# Altium footprint library DE-211024.PcbLib: 131 footprints (part 6 of 9)
Each footprint in its own frame and in the unit in brackets; x right, y up, seen from the top. Pads: shape width x height; smd on the part's side, far side on the other; paste and mask are expansions set on the pad; w line width, h text height; cw(c..) or ccw(c..) is an arc to the next point about the centre after c.
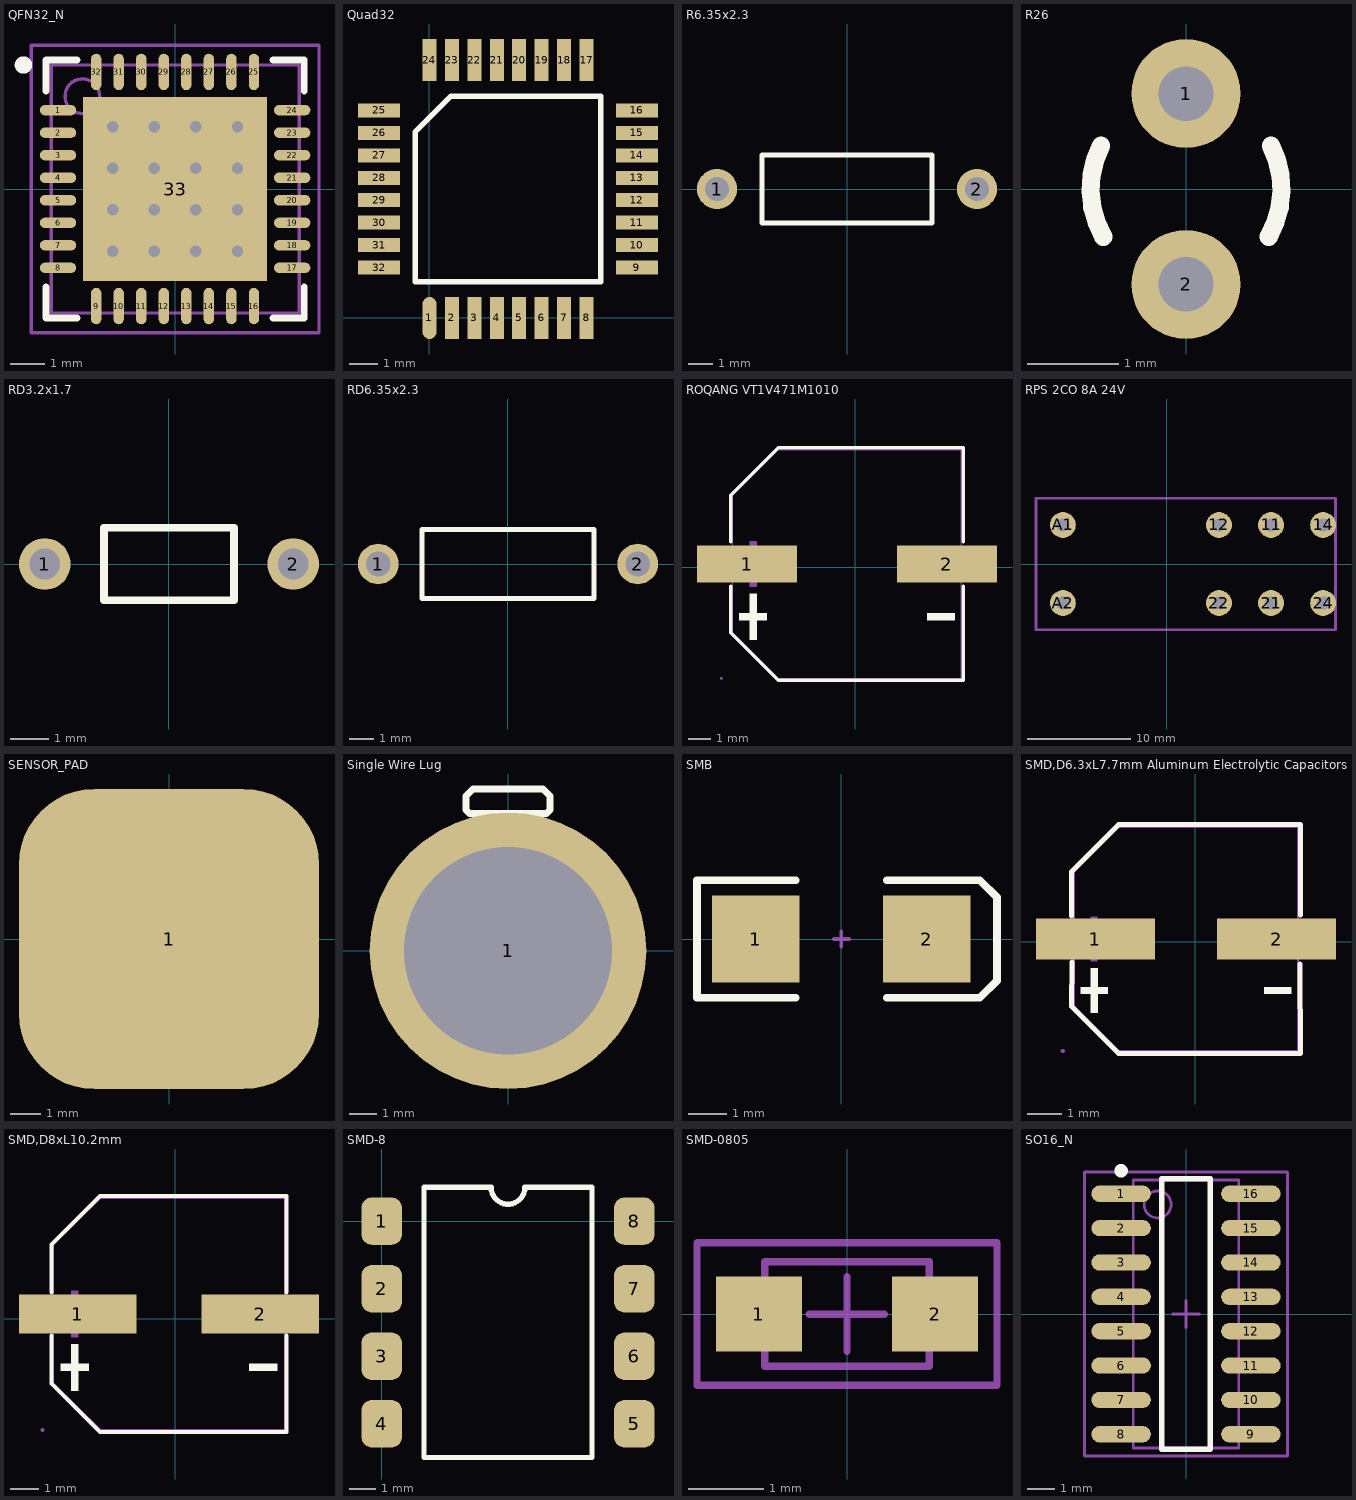
[diagram p5: the footprints below, top view; thin cyan lines are the x and y axes]

## QFN32_N [mm] "QFN, 32-Leads, Body 7x7 mm, Pitch 0.65mm, IPC Medium Density"
height 1
pads (33):
  oval 1.05x0.3 smd: 1(-3.375,2.275) 2(-3.375,1.625) 3(-3.375,0.975) 4(-3.375,0.325) 5(-3.375,-0.325) 6(-3.375,-0.975) 7(-3.375,-1.625) 8(-3.375,-2.275) 17(3.375,-2.275) 18(3.375,-1.625) 19(3.375,-0.975) 20(3.375,-0.325) 21(3.375,0.325) 22(3.375,0.975) 23(3.375,1.625) 24(3.375,2.275)
  oval 0.3x1.05 smd: 9(-2.275,-3.375) 10(-1.625,-3.375) 11(-0.975,-3.375) 12(-0.325,-3.375) 13(0.325,-3.375) 14(0.975,-3.375) 15(1.625,-3.375) 16(2.275,-3.375) 25(2.275,3.375) 26(1.625,3.375) 27(0.975,3.375) 28(0.325,3.375) 29(-0.325,3.375) 30(-0.975,3.375) 31(-1.625,3.375) 32(-2.275,3.375)
  rect 5.3x5.3 smd: 33(0,0)
via -1.8,1.8 diameter 0.66 hole 0.33
via -0.6,1.8 diameter 0.66 hole 0.33
via 0.6,1.8 diameter 0.66 hole 0.33
via 1.8,1.8 diameter 0.66 hole 0.33
via -1.8,0.6 diameter 0.66 hole 0.33
via -0.6,0.6 diameter 0.66 hole 0.33
via 0.6,0.6 diameter 0.66 hole 0.33
via 1.8,0.6 diameter 0.66 hole 0.33
via -1.8,-0.6 diameter 0.66 hole 0.33
via -0.6,-0.6 diameter 0.66 hole 0.33
via 0.6,-0.6 diameter 0.66 hole 0.33
via 1.8,-0.6 diameter 0.66 hole 0.33
via -1.8,-1.8 diameter 0.66 hole 0.33
via -0.6,-1.8 diameter 0.66 hole 0.33
via 0.6,-1.8 diameter 0.66 hole 0.33
via 1.8,-1.8 diameter 0.66 hole 0.33
Top Overlay:
  circle w0.25: c-4.375,3.575 r0.125
  lines w0.2: -3.725,-2.825 -3.725,-3.725 -2.825,-3.725 ; -3.725,2.825 -3.725,3.725 -2.825,3.725 ; 2.825,-3.725 3.725,-3.725 3.725,-2.825 ; 2.825,3.725 3.725,3.725 3.725,2.825
Mechanical 13:
  circle w0.1: c-2.675,2.675 r0.5
  lines w0.1: -3.575,-3.575 -3.575,3.575 3.575,3.575 3.575,-3.575 -3.575,-3.575
Mechanical 15:
  lines w0.1: -0.5,0 0.5,0 ; 0,-0.5 0,0.5 ; -4.15,-4.15 -4.15,4.15 4.15,4.15 4.15,-4.15 -4.15,-4.15
3D body: height 1, standoff 0, extent -3.575,-3.575 3.575,3.575

## Quad32 [mm] "STM32 QLF32 package"
height 3
pads (32):
  oval 0.5x1.5 smd: 1(0,0)
  rect 0.5x1.5 smd: 2(0.8,0) 3(1.6,0) 4(2.4,0) 5(3.2,0) 6(4,0) 7(4.8,0) 8(5.6,0) 17(5.6,9.2) 18(4.8,9.2) 19(4,9.2) 20(3.2,9.2) 21(2.4,9.2) 22(1.6,9.2) 23(0.8,9.2) 24(0,9.2)
  rect 1.5x0.5 smd: 9(7.4,1.8) 10(7.4,2.6) 11(7.4,3.4) 12(7.4,4.2) 13(7.4,5) 14(7.4,5.8) 15(7.4,6.6) 16(7.4,7.4) 25(-1.8,7.4) 26(-1.8,6.6) 27(-1.8,5.8) 28(-1.8,5) 29(-1.8,4.2) 30(-1.8,3.4) 31(-1.8,2.6) 32(-1.8,1.8)
Top Overlay:
  lines w0.2: -0.515,1.285 -0.515,6.63 0.77,7.915 6.115,7.915 6.115,1.285 -0.515,1.285

## R6.35x2.3 [mm] "Resistor, Axial; Body 7 x 2.8 mm (LxDia. max), Lead Dia. 0.7 mm (max)"
height 2.8
pads (2):
  round 1.65 hole 1: 1(-5.35,0) 2(5.35,0)
Top Overlay:
  lines w0.2: -3.5,-1.4 3.5,-1.4 3.5,1.4 -3.5,1.4 -3.5,-1.4

## R26 [mm] "Crystal, Thru-Hole; 2 Leads; Body 2.1 x 6.2 mm (Dia.xH)"
height 6.2
pads (2):
  round 1.2 hole 0.6: 1(0,1.05) 2(0,-1.05)
Top Overlay:
  lines w0.2: -0.936,0.477 ccw(c0,0) -0.909,-0.525 ; 0.909,-0.525 ccw(c0,0) 0.936,0.477

## RD3.2x1.7 [mm] "Resistor, Axial; Body 3.4 x 1.9 mm (LxDia. max), Lead Dia. 0.5 mm (max)"
height 1.9
pads (2):
  round 1.35 hole 0.8: 1(-3.25,0) 2(3.25,0)
Top Overlay:
  lines w0.2: -1.7,-0.95 1.7,-0.95 1.7,0.95 -1.7,0.95 -1.7,-0.95

## RD6.35x2.3 [mm] "Resistor, Axial; Body 7 x 2.8 mm (LxDia. max), Lead Dia. 0.65 mm (max)"
height 2.8
pads (2):
  round 1.65 hole 1: 1(-5.275,0) 2(5.275,0)
Top Overlay:
  lines w0.2: -3.5,-1.4 3.5,-1.4 3.5,1.4 -3.5,1.4 -3.5,-1.4

## ROQANG VT1V471M1010 [mm] "470uF 35V 286mA@120Hz ±20% SMD,D10xL10.2mm Aluminum Electrolytic Capacitors - SMD ROHS"
height 10.2
pads (2):
  rect 4.5x1.65 smd: 1(-4.862,0.146) 2(4.138,0.146)
Top Overlay:
  region: -4.74,-1.193 -4.74,-3.253 -4.431,-3.253 -4.431,-1.193
  region: -5.203,-2.068 -5.203,-2.377 -3.967,-2.377 -3.967,-2.068
  region: 4.479,-2.068 4.479,-2.377 3.243,-2.377 3.243,-2.068
  lines w0.152: -5.588,-0.859 -5.588,-2.944 -3.452,-5.08 4.864,-5.08 4.864,-0.859 ; -5.588,1.151 -5.588,3.236 -3.452,5.372 4.864,5.372 4.864,1.151
Mechanical 6:
  region: -4.74,1.176 -4.74,-0.884 -4.431,-0.884 -4.431,1.176
  region: -5.203,0.301 -5.203,-0.008 -3.967,-0.008 -3.967,0.301
  region: 4.479,0.301 4.479,-0.008 3.243,-0.008 3.243,0.301
Mechanical 15:
  region: -5.952,-5.004 -5.953,-4.979 -5.988,-4.945 -6.037,-4.945 -6.072,-4.979 -6.072,-5.004 -6.072,-5.028 -6.037,-5.063 -5.988,-5.063 -5.953,-5.028
  region: 1.938,0.621 5.288,0.621 5.288,-0.329 1.938,-0.329
  region: -6.012,0.621 -2.662,0.621 -2.662,-0.329 -6.012,-0.329
  lines w0.051: -5.512,-2.944 -3.452,-5.004 4.788,-5.004 4.788,5.296 -3.452,5.296 -5.512,3.236 -5.512,-2.944
3D body: height 10.2, standoff 0, extent -5,-5 5,5

## RPS 2CO 8A 24V [mm] "PCB Relej, 2 CO, 8A, serije RPS, raster 5mm"
height 16
pads (8):
  round 2.5 hole 1.3: 11(10.08,3.78) 12(5.04,3.78) 14(15.12,3.78) 21(10.08,-3.78) 22(5.04,-3.78) 24(15.12,-3.78) A1(-10.08,3.78) A2(-10.08,-3.78)
Mechanical 1:
  lines w0.254: -12.68,-6.35 16.32,-6.35 16.32,6.35 -12.68,6.35 -12.68,-6.35
3D body: height 16, standoff 0, extent -12.68,-6.35 16.32,6.35

## SENSOR_PAD [mm] "pcb trace touch sensor pad"
pads (1):
  rrect50% 10x10 all layers, no hole: 1(0,0)

## Single Wire Lug [mm] "Single Wire terminal Connector"
height 11.5
pads (1):
  round 10 hole 7.5: 1(0,0)
Top Overlay:
  circle w0.254: c0,0 r2.8
  lines w0.254: -3,3.8 -3.217,0.495 ccw(c-0.005,0.001) 3.205,0.513 3,3.8 ; -3,3.81 3,3.81 ; -0.635,3.81 -0.635,4.953 ; -0.635,4.064 -0.127,4.064 0.508,4.699 ; -0.635,4.445 -0.381,4.445 0.127,4.953 0.254,4.953 ; 0.381,3.937 0.635,4.191 ; 0.635,3.81 0.635,4.953 ; -0.635,4.953 0.635,4.953 ; -0.635,4.953 -1.397,4.953 -1.524,5.08 -1.524,5.588 -1.27,5.842 1.27,5.842 1.524,5.588 1.524,5.08 1.397,4.953 0.635,4.953
3D body: height 11.5, standoff 0, extent -3.5,-3.5 3.5,3.5

## SMB [mm] "DO-214-AA/SMB; 2 C-Bend Leads; Body 5.3 x 3.6 mm, inc. leads (LxW)"
height 2.54
pads (2):
  rect 2.3x2.3 smd: 1(-2.25,0) 2(2.25,0)
Top Overlay:
  lines w0.2: -1.2,-1.55 -3.8,-1.55 -3.8,1.55 -1.2,1.55 ; 1.2,-1.55 3.65,-1.55 4.1,-1.1 4.1,1.1 3.65,1.55 1.2,1.55
Mechanical 1:
  lines w0.1: -0.2,0 0.2,0 ; 0,-0.2 0,0.2

## SMD,D6.3xL7.7mm Aluminum Electrolytic Capacitors [mm]
pads (2):
  rect 3.5x1.2 smd paste+0 mask+0.051: 1(-2.949,0.074) 2(2.391,0.074)
Top Overlay:
  region: -3.084,-0.784 -3.084,-2.104 -2.886,-2.104 -2.886,-0.784
  region: -3.381,-1.345 -3.381,-1.543 -2.589,-1.543 -2.589,-1.345
  region: 2.823,-1.345 2.823,-1.543 2.031,-1.543 2.031,-1.345
  lines w0.152: -3.655,0.759 -3.655,2.054 -2.259,3.45 3.097,3.45 3.091,0.781 ; -3.641,-0.612 -3.655,-1.908 -2.26,-3.302 3.097,-3.302 3.077,-0.666
Mechanical 6:
  region: -3.089,0.734 -3.089,-0.586 -2.891,-0.586 -2.891,0.734
  region: -3.381,0.173 -3.381,-0.025 -2.589,-0.025 -2.589,0.173
  region: 2.823,0.173 2.823,-0.025 2.031,-0.025 2.031,0.173
Mechanical 15:
  region: -3.913,0.399 -1.313,0.399 -1.313,-0.251 -3.913,-0.251
  region: 0.788,0.399 3.388,0.399 3.388,-0.251 0.788,-0.251
  region: -3.853,-3.226 -3.854,-3.202 -3.888,-3.169 -3.937,-3.169 -3.972,-3.202 -3.973,-3.226 -3.972,-3.25 -3.937,-3.284 -3.888,-3.284 -3.854,-3.25
  lines w0.051: -3.579,-1.906 -3.579,2.054 -2.259,3.374 3.021,3.374 3.021,-3.226 -2.259,-3.226 -3.579,-1.906
3D body: height 7.7, standoff 0, extent -3.404,-3.15 2.896,3.15

## SMD,D8xL10.2mm [mm] "220uF 35V 195mA@120Hz ±20% SMD,D8xL10.2mm Aluminum Electrolytic Capacitors - SMD ROH"
pads (2):
  rect 4.2x1.4 smd paste+0 mask+0.051: 1(-3.488,0.162) 2(3.046,0.162)
Top Overlay:
  region: 3.655,-1.622 3.655,-1.871 2.659,-1.871 2.659,-1.622
  region: -4.097,-1.622 -4.097,-1.871 -3.101,-1.871 -3.101,-1.622
  region: -3.723,-0.917 -3.723,-2.577 -3.474,-2.577 -3.474,-0.917
  lines w0.152: -4.422,-0.62 -4.422,-2.328 -2.686,-4.064 3.98,-4.064 3.98,-0.62 ; -4.422,0.945 -4.422,2.652 -2.686,4.388 3.98,4.388 3.98,0.945
Mechanical 6:
  region: 3.655,0.287 3.655,0.038 2.659,0.038 2.659,0.287
  region: -4.097,0.287 -4.097,0.038 -3.101,0.038 -3.101,0.287
  region: -3.723,0.992 -3.723,-0.668 -3.474,-0.668 -3.474,0.992
Mechanical 15:
  region: -4.685,-3.988 -4.686,-3.964 -4.721,-3.93 -4.769,-3.93 -4.804,-3.964 -4.805,-3.988 -4.804,-4.012 -4.769,-4.045 -4.721,-4.045 -4.686,-4.012
  region: 1.354,0.612 4.304,0.612 4.304,-0.288 1.354,-0.288
  region: -4.745,0.612 -1.795,0.612 -1.795,-0.288 -4.745,-0.288
  lines w0.051: -4.371,-2.328 -2.686,-3.988 3.929,-3.988 3.929,4.312 -2.686,4.312 -4.371,2.652 -4.371,-2.328
3D body: height 10.2, standoff 0, extent -4.247,-3.816 3.753,4.184

## SMD-8 [mm]
pads (8):
  rrect50% 1.52x1.78 smd: 1(0,0) 2(0,-2.54) 3(0,-5.08) 4(0,-7.62) 5(9.5,-7.62) 6(9.5,-5.08) 7(9.5,-2.54) 8(9.5,0)
Top Overlay:
  lines w0.2: 1.595,-8.89 7.905,-8.89 7.905,1.27 5.385,1.27 cw(c4.75,1.27) 4.115,1.27 1.595,1.27 1.595,-8.89
3D body: height 3.55, standoff 0.18, extent 1.27,-8.89 8.382,1.27

## SMD-0805 [mm] "Chip Inductor, 2-Leads, Body 2.0x1.2mm"
height 1.1
pads (2):
  rect 1.15x1 smd: 1(-1.175,0) 2(1.175,0)
Mechanical 13:
  lines w0.1: -1.1,-0.7 -1.1,0.7 1.1,0.7 1.1,-0.7 -1.1,-0.7
Mechanical 15:
  lines w0.1: -0.5,0 0.5,0 ; 0,-0.5 0,0.5 ; -2,-0.95 -2,0.95 2,0.95 2,-0.95 -2,-0.95
3D body "74279201.stp": height 1.1, standoff -0.01, extent -1,-0.6 1,0.6

## SO16_N [mm] "SOIC, 16-Leads, Body 9.9x3.9mm, Pitch 1.27mm, IPC Medium Density"
height 1.75
pads (16):
  oval 2.2x0.6 smd: 1(-2.4,4.445) 2(-2.4,3.175) 3(-2.4,1.905) 4(-2.4,0.635) 5(-2.4,-0.635) 6(-2.4,-1.905) 7(-2.4,-3.175) 8(-2.4,-4.445) 9(2.4,-4.445) 10(2.4,-3.175) 11(2.4,-1.905) 12(2.4,-0.635) 13(2.4,0.635) 14(2.4,1.905) 15(2.4,3.175) 16(2.4,4.445)
Top Overlay:
  circle w0.25: c-2.4,5.295 r0.125
  lines w0.2: -0.9,-5 0.9,-5 0.9,5 -0.9,5 -0.9,-5
Mechanical 13:
  circle w0.1: c-1.05,4.05 r0.5
  lines w0.1: -1.95,-4.95 1.95,-4.95 1.95,4.95 -1.95,4.95 -1.95,-4.95
Mechanical 15:
  lines w0.1: -0.5,0 0.5,0 ; 0,-0.5 0,0.5 ; -3.75,-5.25 3.75,-5.25 3.75,5.25 -3.75,5.25 -3.75,-5.25
3D body: height 1.75, standoff 0, extent -1.95,-4.95 1.95,4.95